# Altium footprint library PCB - LEADLESS - DFN - AD DFN-12 3X3MM DD.PcbLib: 1 footprints
Each footprint in its own frame and in the unit in brackets; x right, y up, seen from the top. Pads: shape width x height; smd on the part's side, far side on the other; paste and mask are expansions set on the pad; w line width, h text height; cw(c..) or ccw(c..) is an arc to the next point about the centre after c.
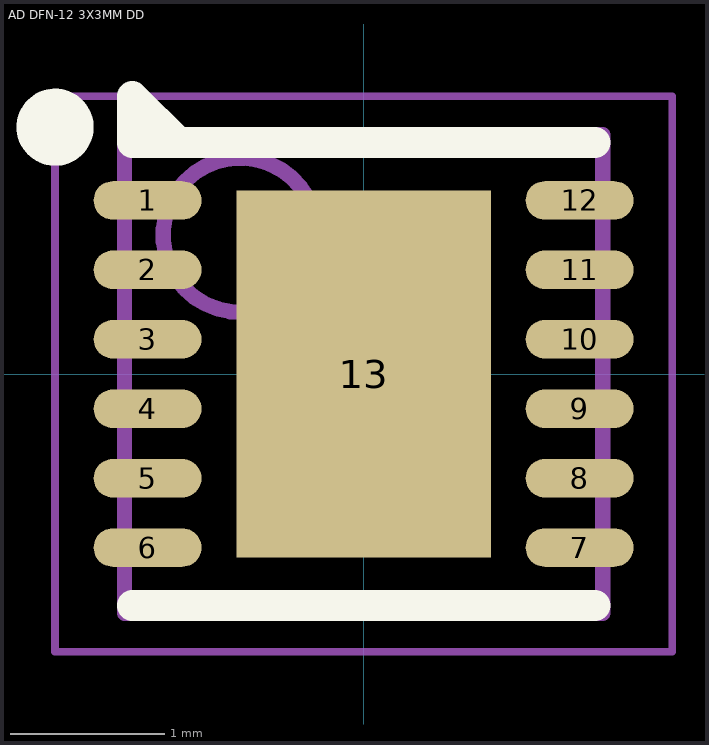
[diagram p0: the footprint, top view; thin cyan lines are the x and y axes]

## AD DFN-12 3X3MM DD [mm] "DD Package  12-Lead Plastic DFN (3mm × 3mm)"
height 0.8
pads (13):
  oval 0.7x0.25 smd: 1(-1.4,1.125) 2(-1.4,0.675) 3(-1.4,0.225) 4(-1.4,-0.225) 5(-1.4,-0.675) 6(-1.4,-1.125) 7(1.4,-1.125) 8(1.4,-0.675) 9(1.4,-0.225) 10(1.4,0.225) 11(1.4,0.675) 12(1.4,1.125)
  rect 1.65x2.38 smd: 13(0,0)
Top Overlay:
  circle w0.25: c-2,1.6 r0.125
  lines w0.2: -1.5,-1.5 1.5,-1.5 ; -1.2,1.5 -1.5,1.8 -1.5,1.5 1.5,1.5
Top Assembly:
  circle w0.1: c-0.8,0.9 r0.5
  lines w0.1: -1.55,-1.55 -1.55,1.55 1.55,1.55 1.55,-1.55 -1.55,-1.55
Top Courtyard:
  lines w0.05: -2,-1.8 -2,1.8 2,1.8 2,-1.8 -2,-1.8
  lines w0.1: -0.5,0 0.5,0 ; 0,-0.5 0,0.5
3D body "AD DFN-12 3X3MM DD.step": height 0.8, standoff 0, extent -1.56,-1.55 1.56,1.55